# Altium integrated library FRDM-KL25Z (1).IntLib: 1 symbol
Pins are listed as number, name and electrical type; pins without a type are passive.

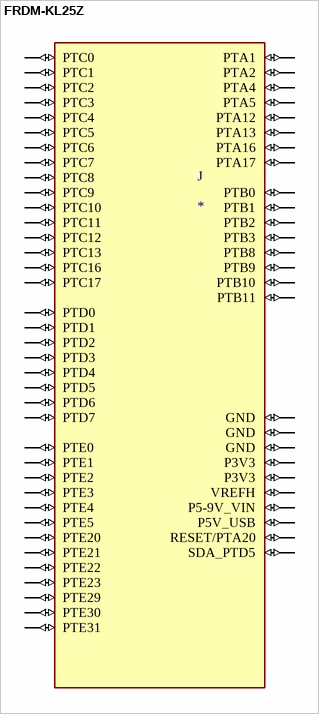
[diagram p0: symbol FRDM-KL25Z]

## FRDM-KL25Z
designator J
KL1x, KL2x, mbed-Enabled Development Freedom Kinetis ARMÂ® CortexÂ®-M0+ MCU 32-Bit Embedded Evaluation Board; MP: FRDM-KL25Z; MF: NXP USA; Price: None; Availability: Unavailable; Package: None; SnapEDA_Link: https://www.snapeda.com/parts/FRDM-KL25Z/NXP%20USA%20Inc./view-part/484194/?ref=snap; Value: *
footprint FRDM-KL25Z
pins: J1-1 PTC7 (io), J1-2 PTA1 (io), J1-3 PTC0 (io), J1-4 PTA2 (io), J1-5 PTC3 (io), J1-6 PTD4 (io), J1-7 PTC4 (io), J1-8 PTA12 (io), J1-9 PTC5 (io), J1-10 PTA4 (io), J1-11 PTC6 (io), J1-12 PTA5 (io), J1-13 PTC10 (io), J1-14 PTC8 (io), J1-15 PTC11 (io), J1-16 PTC9 (io), J2-1 PTC12 (io), J2-2 PTA13 (io), J2-3 PTC13 (io), J2-4 PTD5 (io), J2-5 PTC16 (io), J2-6 PTD0 (io), J2-7 PTC17 (io), J2-8 PTD2 (io), J2-9 PTA16 (io), J2-10 PTD3 (io), J2-11 PTA17 (io), J2-12 PTD1 (io), J2-13 PTE31 (io), J2-14 GND (io), J2-16 VREFH (io), J2-17 PTD6 (io), J2-18 PTE1 (io), J2-19 PTD7 (io), J2-20 PTE0 (io), J9-1 PTB8 (io), J9-2 SDA_PTD5 (io), J9-3 PTB9 (io), J9-4 P3V3 (io), J9-5 PTB10 (io), J9-6 RESET/PTA20 (io), J9-7 PTB11 (io), J9-8 P3V3 (io), J9-9 PTE2 (io), J9-10 P5V_USB (io), J9-11 PTE3 (io), J9-12 GND (io), J9-13 PTE4 (io), J9-14 GND (io), J9-15 PTE5 (io), J9-16 P5-9V_VIN (io), J10-1 PTE20 (io), J10-2 PTB0 (io), J10-3 PTE21 (io), J10-4 PTB1 (io), J10-5 PTE22 (io), J10-6 PTB2 (io), J10-7 PTE23 (io), J10-8 PTB3 (io), J10-9 PTE29 (io), J10-10 PTC2 (io), J10-11 PTE30 (io), J10-12 PTC1 (io)